# Altium schematic symbol library ATMEGA32A-PU.SchLib: 1 symbol
Pins are listed as number, name and electrical type; pins without a type are passive.

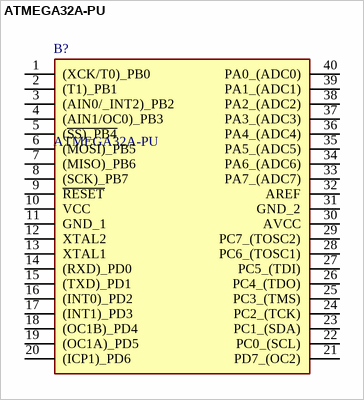
[diagram p0: symbol ATMEGA32A-PU]

## ATMEGA32A-PU
designator B?
8-bit Microcontrollers - MCU 32KB In-system Flash 2.7V - 5.5V; Manufacturer_Name: Microchip; Geometry.Height: 4.826mm; Manufacturer_Part_Number: ATMEGA32A-PU; Mouser Part Number: 556-ATMEGA32A-PU; Mouser Price/Stock: https://www.mouser.co.uk/ProductDetail/Microchip-Technology/ATMEGA32A-PU?qs=6WoM%2FY8vMbadJ8khIfKCsQ%3D%3D; Arrow Part Number: ATMEGA32A-PU; Arrow Price/Stock: https://www.arrow.com/en/products/atmega32a-pu/microchip-technology?region=nac; Datasheet Link: http://www.mouser.com/ds/2/268/Atmel-8155-8-bit-Microcontroller-AVR-ATmega32A_Dat-1065737.pdf
footprint DIP1556W56P254L5232H483Q40N
pins: 1 (XCK/T0)_PB0, 2 (T1)_PB1, 3 (AIN0/_INT2)_PB2, 4 (AIN1/OC0)_PB3, 5 (~{SS)_PB4}, 6 (MOSI)_PB5, 7 (MISO)_PB6, 8 (SCK)_PB7, 9 ~{RESET}, 10 VCC, 11 GND_1, 12 XTAL2, 13 XTAL1, 14 (RXD)_PD0, 15 (TXD)_PD1, 16 (INT0)_PD2, 17 (INT1)_PD3, 18 (OC1B)_PD4, 19 (OC1A)_PD5, 20 (ICP1)_PD6, 21 PD7_(OC2), 22 PC0_(SCL), 23 PC1_(SDA), 24 PC2_(TCK), 25 PC3_(TMS), 26 PC4_(TDO), 27 PC5_(TDI), 28 PC6_(TOSC1), 29 PC7_(TOSC2), 30 AVCC, 31 GND_2, 32 AREF, 33 PA7_(ADC7), 34 PA6_(ADC6), 35 PA5_(ADC5), 36 PA4_(ADC4), 37 PA3_(ADC3), 38 PA2_(ADC2), 39 PA1_(ADC1), 40 PA0_(ADC0)